# Altium footprint library LINUX.PcbLib: 113 footprints (part 6 of 8)
Each footprint in its own frame and in the unit in brackets; x right, y up, seen from the top. Pads: shape width x height; smd on the part's side, far side on the other; paste and mask are expansions set on the pad; w line width, h text height; cw(c..) or ccw(c..) is an arc to the next point about the centre after c.
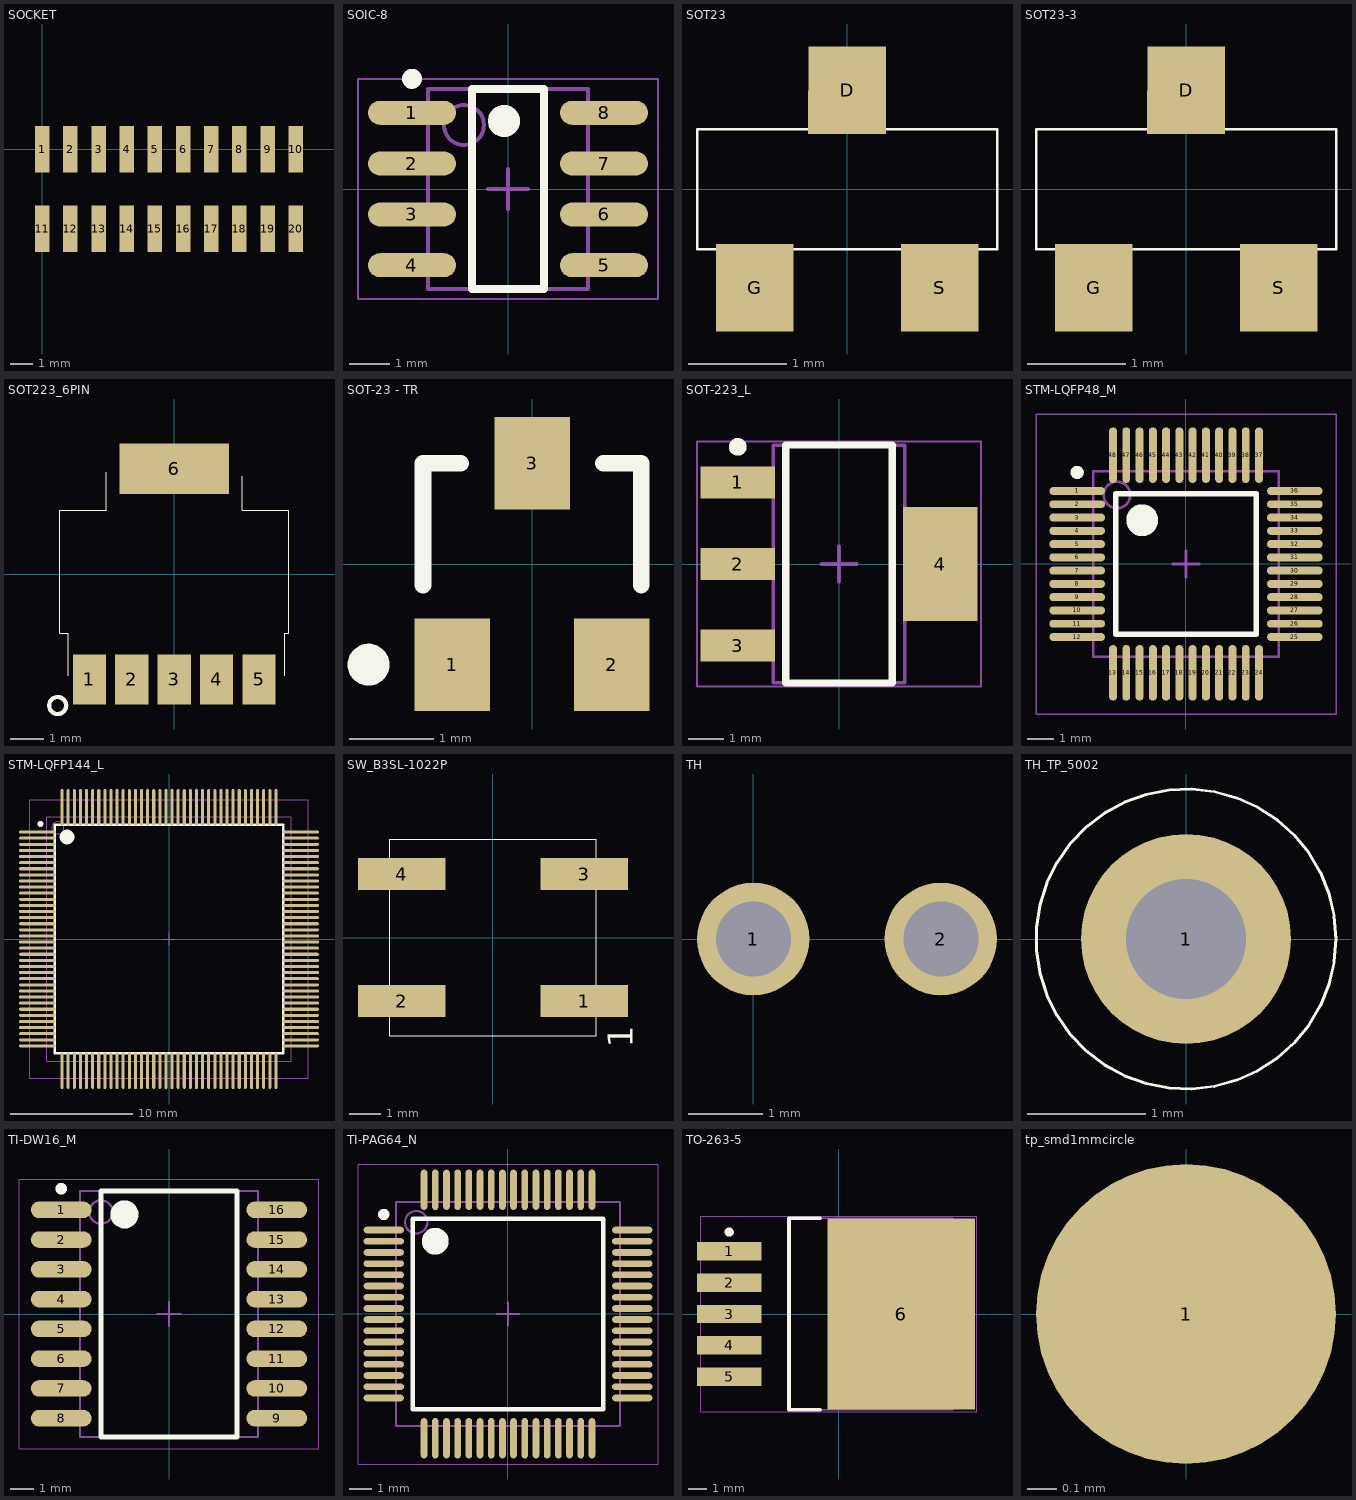
[diagram p5: the footprints below, top view; thin cyan lines are the x and y axes]

## SOCKET [mm]
pads (20):
  rect 0.65x2.1 smd: 1(0,0) 2(1.27,0) 3(2.54,0) 4(3.81,0) 5(5.08,0) 6(6.35,0) 7(7.62,0) 8(8.89,0) 9(10.16,0) 10(11.43,0) 11(0,-3.6) 12(1.27,-3.6) 13(2.54,-3.6) 14(3.81,-3.6) 15(5.08,-3.6) 16(6.35,-3.6) 17(7.62,-3.6) 18(8.89,-3.6) 19(10.16,-3.6) 20(11.43,-3.6)

## SOIC-8 [mm]
pads (8):
  oval 2.2x0.6 smd: 1(-2.4,1.905) 2(-2.4,0.635) 3(-2.4,-0.635) 4(-2.4,-1.905) 5(2.4,-1.905) 6(2.4,-0.635) 7(2.4,0.635) 8(2.4,1.905)
Top Overlay:
  circle w0.25: c-2.4,2.755 r0.125
  circle w0.4: c-0.1,1.7 r0.2
  lines w0.2: -0.9,-2.5 -0.9,2.5 0.9,2.5 0.9,-2.5 -0.9,-2.5
Mechanical 13:
  circle w0.1: c-1.1,1.6 r0.5
  lines w0.1: -2,-2.5 -2,2.5 2,2.5 2,-2.5 -2,-2.5
Mechanical 15:
  lines w0.05: -3.75,-2.75 -3.75,2.75 3.75,2.75 3.75,-2.75 -3.75,-2.75
  lines w0.1: -0.5,0 0.5,0 ; 0,-0.5 0,0.5

## SOT23 [mil] "SOT23-3"
pads (3):
  rect 31x35 smd: D(0,39.5) G(-37,-39.5) S(37,-39.5)
Top Overlay:
  lines w1: -60,-24 -60,24 60,24 60,-24 -60,-24

## SOT23-3 [mil] "SOT23-3"
pads (3):
  rect 31x35 smd: D(0,39.5) G(-37,-39.5) S(37,-39.5)
Top Overlay:
  lines w1: -60,-24 -60,24 60,24 60,-24 -60,-24

## SOT223_6PIN [mil] "SOT223_6PIN"
pads (6):
  rect 39x59 smd: 1(-100,-124) 2(-50,-124) 3(0,-124) 4(50,-124) 5(100,-124)
  rect 129x59 smd: 6(0,124)
Top Overlay:
  circle w5: c-137.28,-154.83 r10
  lines w1: -125,-120 -125,-70 -135,-70 -135,75 -80,75 -80,120 ; 80,115 80,75 135,75 135,-70 130,-70 130,-120

## SOT-23 - TR [mm] "SOT-23; 3 Leads; Body 3.0 x 2.6 mm, inc. leads (LxW max)"
height 1.12
pads (3):
  rect 0.9x1.1 smd: 1(-0.95,-1.2) 2(0.95,-1.2) 3(0,1.2)
Top Overlay:
  circle w0.25: c-1.95,-1.2 r0.125
  lines w0.2: -1.3,-0.25 -1.3,1.2 -0.85,1.2 ; 0.85,1.2 1.3,1.2 1.3,-0.25

## SOT-223_L [mm]
pads (4):
  rect 2.1x0.9 smd: 1(-2.85,2.3) 2(-2.85,0) 3(-2.85,-2.3)
  rect 2.1x3.2 smd: 4(2.85,0)
Top Overlay:
  circle w0.25: c-2.85,3.3 r0.125
  lines w0.2: -1.5,-3.35 1.5,-3.35 1.5,3.35 -1.5,3.35 -1.5,-3.35
Mechanical 13:
  lines w0.1: -1.85,-3.35 1.85,-3.35 1.85,3.35 -1.85,3.35 -1.85,-3.35
Mechanical 15:
  lines w0.05: -4,-3.45 4,-3.45 4,3.45 -4,3.45 -4,-3.45
  lines w0.1: -0.5,0 0.5,0 ; 0,-0.5 0,0.5

## STM-LQFP48_M [mm] "QFP, 48-Leads, Body 7x7mm, Pitch 0.5mm, IPC Low Density"
height 1.6
pads (48):
  oval 2.1x0.3 smd mask+0.1: 1(-4.1,2.75) 2(-4.1,2.25) 3(-4.1,1.75) 4(-4.1,1.25) 5(-4.1,0.75) 6(-4.1,0.25) 7(-4.1,-0.25) 8(-4.1,-0.75) 9(-4.1,-1.25) 10(-4.1,-1.75) 11(-4.1,-2.25) 12(-4.1,-2.75) 25(4.1,-2.75) 26(4.1,-2.25) 27(4.1,-1.75) 28(4.1,-1.25) 29(4.1,-0.75) 30(4.1,-0.25) 31(4.1,0.25) 32(4.1,0.75) 33(4.1,1.25) 34(4.1,1.75) 35(4.1,2.25) 36(4.1,2.75)
  oval 0.3x2.1 smd mask+0.1: 13(-2.75,-4.1) 14(-2.25,-4.1) 15(-1.75,-4.1) 16(-1.25,-4.1) 17(-0.75,-4.1) 18(-0.25,-4.1) 19(0.25,-4.1) 20(0.75,-4.1) 21(1.25,-4.1) 22(1.75,-4.1) 23(2.25,-4.1) 24(2.75,-4.1) 37(2.75,4.1) 38(2.25,4.1) 39(1.75,4.1) 40(1.25,4.1) 41(0.75,4.1) 42(0.25,4.1) 43(-0.25,4.1) 44(-0.75,4.1) 45(-1.25,4.1) 46(-1.75,4.1) 47(-2.25,4.1) 48(-2.75,4.1)
Top Overlay:
  circle w0.25: c-4.1,3.45 r0.125
  circle w0.6: c-1.65,1.65 r0.3
  lines w0.2: -2.65,-2.65 -2.65,2.65 2.65,2.65 2.65,-2.65 -2.65,-2.65
Mechanical 13:
  circle w0.1: c-2.6,2.6 r0.5
  lines w0.1: -3.5,-3.5 -3.5,3.5 3.5,3.5 3.5,-3.5 -3.5,-3.5
Mechanical 15:
  lines w0.05: -5.65,-5.65 -5.65,5.65 5.65,5.65 5.65,-5.65 -5.65,-5.65
  lines w0.1: -0.5,0 0.5,0 ; 0,-0.5 0,0.5
3D body: height 1.6, standoff 0.05, extent -3.5,-3.5 3.5,3.5

## STM-LQFP144_L [mm]
pads (144):
  oval 3x0.25 smd mask+0.051: 1(-10.779,8.75) 2(-10.779,8.25) 3(-10.779,7.75) 4(-10.779,7.25) 5(-10.779,6.75) 6(-10.779,6.25) 7(-10.779,5.75) 8(-10.779,5.25) 9(-10.779,4.75) 10(-10.779,4.25) 11(-10.779,3.75) 12(-10.779,3.25) 13(-10.779,2.75) 14(-10.779,2.25) 15(-10.779,1.75) 16(-10.779,1.25) 17(-10.779,0.75) 18(-10.779,0.25) 19(-10.779,-0.25) 20(-10.779,-0.75) 21(-10.779,-1.25) 22(-10.779,-1.75) 23(-10.779,-2.25) 24(-10.779,-2.75) 25(-10.779,-3.25) 26(-10.779,-3.75) 27(-10.779,-4.25) 28(-10.779,-4.75) 29(-10.779,-5.25) 30(-10.779,-5.75) 31(-10.779,-6.25) 32(-10.779,-6.75) 33(-10.779,-7.25) 34(-10.779,-7.75) 35(-10.779,-8.25) 36(-10.779,-8.75) 73(10.779,-8.75) 74(10.779,-8.25) 75(10.779,-7.75) 76(10.779,-7.25) 77(10.779,-6.75) 78(10.779,-6.25) 79(10.779,-5.75) 80(10.779,-5.25) 81(10.779,-4.75) 82(10.779,-4.25) 83(10.779,-3.75) 84(10.779,-3.25) 85(10.779,-2.75) 86(10.779,-2.25) 87(10.779,-1.75) 88(10.779,-1.25) 89(10.779,-0.75) 90(10.779,-0.25) 91(10.779,0.25) 92(10.779,0.75) 93(10.779,1.25) 94(10.779,1.75) 95(10.779,2.25) 96(10.779,2.75) 97(10.779,3.25) 98(10.779,3.75) 99(10.779,4.25) 100(10.779,4.75) 101(10.779,5.25) 102(10.779,5.75) 103(10.779,6.25) 104(10.779,6.75) 105(10.779,7.25) 106(10.779,7.75) 107(10.779,8.25) 108(10.779,8.75)
  oval 0.25x3 smd mask+0.051: 37(-8.75,-10.779) 38(-8.25,-10.779) 39(-7.75,-10.779) 40(-7.25,-10.779) 41(-6.75,-10.779) 42(-6.25,-10.779) 43(-5.75,-10.779) 44(-5.25,-10.779) 45(-4.75,-10.779) 46(-4.25,-10.779) 47(-3.75,-10.779) 48(-3.25,-10.779) 49(-2.75,-10.779) 50(-2.25,-10.779) 51(-1.75,-10.779) 52(-1.25,-10.779) 53(-0.75,-10.779) 54(-0.25,-10.779) 55(0.25,-10.779) 56(0.75,-10.779) 57(1.25,-10.779) 58(1.75,-10.779) 59(2.25,-10.779) 60(2.75,-10.779) 61(3.25,-10.779) 62(3.75,-10.779) 63(4.25,-10.779) 64(4.75,-10.779) 65(5.25,-10.779) 66(5.75,-10.779) 67(6.25,-10.779) 68(6.75,-10.779) 69(7.25,-10.779) 70(7.75,-10.779) 71(8.25,-10.779) 72(8.75,-10.779) 109(8.75,10.779) 110(8.25,10.779) 111(7.75,10.779) 112(7.25,10.779) 113(6.75,10.779) 114(6.25,10.779) 115(5.75,10.779) 116(5.25,10.779) 117(4.75,10.779) 118(4.25,10.779) 119(3.75,10.779) 120(3.25,10.779) 121(2.75,10.779) 122(2.25,10.779) 123(1.75,10.779) 124(1.25,10.779) 125(0.75,10.779) 126(0.25,10.779) 127(-0.25,10.779) 128(-0.75,10.779) 129(-1.25,10.779) 130(-1.75,10.779) 131(-2.25,10.779) 132(-2.75,10.779) 133(-3.25,10.779) 134(-3.75,10.779) 135(-4.25,10.779) 136(-4.75,10.779) 137(-5.25,10.779) 138(-5.75,10.779) 139(-6.25,10.779) 140(-6.75,10.779) 141(-7.25,10.779) 142(-7.75,10.779) 143(-8.25,10.779) 144(-8.75,10.779)
Top Overlay:
  circle w0.6: c-8.35,8.35 r0.3
  circle w0.25: c-10.525,9.425 r0.125
  lines w0.2: -9.35,-9.35 9.35,-9.35 9.35,9.35 -9.35,9.35 -9.35,-9.35
Mechanical 13:
  circle w0.1: c-9.1,9.1 r0.5
  lines w0.1: -10,-10 10,-10 10,10 -10,10 -10,-10
Mechanical 15:
  lines w0.05: -11.4,-11.4 11.4,-11.4 11.4,11.4 -11.4,11.4 -11.4,-11.4
  lines w0.1: -0.5,0 0.5,0 ; 0,-0.5 0,0.5
3D body: height 1.6, standoff 0.05, extent -10,-10 10,10

## SW_B3SL-1022P [mm] "SW_B3SL-1022P"
pads (4):
  rect 2.75x1 smd: 1(2.875,-2) 2(-2.875,-2) 3(2.875,2) 4(-2.875,2)
Top Overlay:
  lines w0.025: -3.25,-3.1 3.25,-3.1 3.25,3.1 -3.25,3.1 -3.25,-3.1
  text "1" at 4.407,-3.468 h0.79

## TH [mil]
pads (2):
  round 60 hole 40: 1(0,0) 2(100,0)

## TH_TP_5002 [mil] "TH_TP_5002"
pads (1):
  round 70 hole 40: 1(0,0)
Top Overlay:
  circle w1: c0,0 r50

## TI-DW16_M [mm] "SOIC, 16-Leads, Body 10.3x7.5mm, Pitch 1.27mm, IPC Low Density"
height 2.65
pads (16):
  oval 2.6x0.7 smd: 1(-4.6,4.445) 2(-4.6,3.175) 3(-4.6,1.905) 4(-4.6,0.635) 5(-4.6,-0.635) 6(-4.6,-1.905) 7(-4.6,-3.175) 8(-4.6,-4.445) 9(4.6,-4.445) 10(4.6,-3.175) 11(4.6,-1.905) 12(4.6,-0.635) 13(4.6,0.635) 14(4.6,1.905) 15(4.6,3.175) 16(4.6,4.445)
Top Overlay:
  circle w0.6: c-1.9,4.25 r0.3
  circle w0.25: c-4.6,5.345 r0.125
  lines w0.2: -2.9,-5.25 2.9,-5.25 2.9,5.25 -2.9,5.25 -2.9,-5.25
Mechanical 13:
  circle w0.1: c-2.9,4.35 r0.5
  lines w0.1: -3.8,-5.25 3.8,-5.25 3.8,5.25 -3.8,5.25 -3.8,-5.25
Mechanical 15:
  lines w0.05: -6.4,-5.75 6.4,-5.75 6.4,5.75 -6.4,5.75 -6.4,-5.75
  lines w0.1: -0.5,0 0.5,0 ; 0,-0.5 0,0.5

## TI-PAG64_N [mm] "QFP, 64-Leads, Body 10x10mm, Pitch 0.5mm, IPC Medium Density"
height 1.2
pads (64):
  oval 1.8x0.3 smd: 1(-5.55,3.75) 2(-5.55,3.25) 3(-5.55,2.75) 4(-5.55,2.25) 5(-5.55,1.75) 6(-5.55,1.25) 7(-5.55,0.75) 8(-5.55,0.25) 9(-5.55,-0.25) 10(-5.55,-0.75) 11(-5.55,-1.25) 12(-5.55,-1.75) 13(-5.55,-2.25) 14(-5.55,-2.75) 15(-5.55,-3.25) 16(-5.55,-3.75) 33(5.55,-3.75) 34(5.55,-3.25) 35(5.55,-2.75) 36(5.55,-2.25) 37(5.55,-1.75) 38(5.55,-1.25) 39(5.55,-0.75) 40(5.55,-0.25) 41(5.55,0.25) 42(5.55,0.75) 43(5.55,1.25) 44(5.55,1.75) 45(5.55,2.25) 46(5.55,2.75) 47(5.55,3.25) 48(5.55,3.75)
  oval 0.3x1.8 smd: 17(-3.75,-5.55) 18(-3.25,-5.55) 19(-2.75,-5.55) 20(-2.25,-5.55) 21(-1.75,-5.55) 22(-1.25,-5.55) 23(-0.75,-5.55) 24(-0.25,-5.55) 25(0.25,-5.55) 26(0.75,-5.55) 27(1.25,-5.55) 28(1.75,-5.55) 29(2.25,-5.55) 30(2.75,-5.55) 31(3.25,-5.55) 32(3.75,-5.55) 49(3.75,5.55) 50(3.25,5.55) 51(2.75,5.55) 52(2.25,5.55) 53(1.75,5.55) 54(1.25,5.55) 55(0.75,5.55) 56(0.25,5.55) 57(-0.25,5.55) 58(-0.75,5.55) 59(-1.25,5.55) 60(-1.75,5.55) 61(-2.25,5.55) 62(-2.75,5.55) 63(-3.25,5.55) 64(-3.75,5.55)
Top Overlay:
  circle w0.25: c-5.55,4.45 r0.125
  circle w0.6: c-3.25,3.25 r0.3
  lines w0.2: -4.25,-4.25 -4.25,4.25 4.25,4.25 4.25,-4.25 -4.25,-4.25
Mechanical 13:
  circle w0.1: c-4.1,4.1 r0.5
  lines w0.1: -5,-5 -5,5 5,5 5,-5 -5,-5
Mechanical 15:
  lines w0.05: -6.7,-6.7 -6.7,6.7 6.7,6.7 6.7,-6.7 -6.7,-6.7
  lines w0.1: -0.5,0 0.5,0 ; 0,-0.5 0,0.5
3D body: height 1.2, standoff 0.05, extent -5,-5 5,5

## TO-263-5 [mm] "D2-PAK, 6-Leads, Body 8.6x10.2mm, Pitch 1.7mm, Lead Span 14.1mm, IPC High Density"
height 4.65
pads (6):
  rect 3.5x1 smd: 1(-5.95,3.4) 2(-5.95,1.7) 3(-5.95,0) 4(-5.95,-1.7) 5(-5.95,-3.4)
  rect 8x10.4 smd: 6(3.4,0)
Top Overlay:
  circle w0.25: c-5.95,4.45 r0.125
  lines w0.2: -1,-5.2 -2.7,-5.2 -2.7,5.2 -1,5.2
Mechanical 13:
  lines w0.1: -2.7,-5.2 6.19,-5.2 6.19,5.2 -2.7,5.2 -2.7,-5.2
Mechanical 15:
  lines w0.05: -7.5,-5.3 7.5,-5.3 7.5,5.3 -7.5,5.3 -7.5,-5.3
  lines w0.1: -0.5,0 0.5,0 ; 0,-0.5 0,0.5

## tp_smd1mmcircle [mil] "TP_SMD1MMCIRCLE"
pads (1):
  round 40 smd: 1(0,0)